# Altium schematic symbol library Placa desarrollo PIC16F877A.SchLib: 16 symbols
Pins are listed as number, name and electrical type; pins without a type are passive.

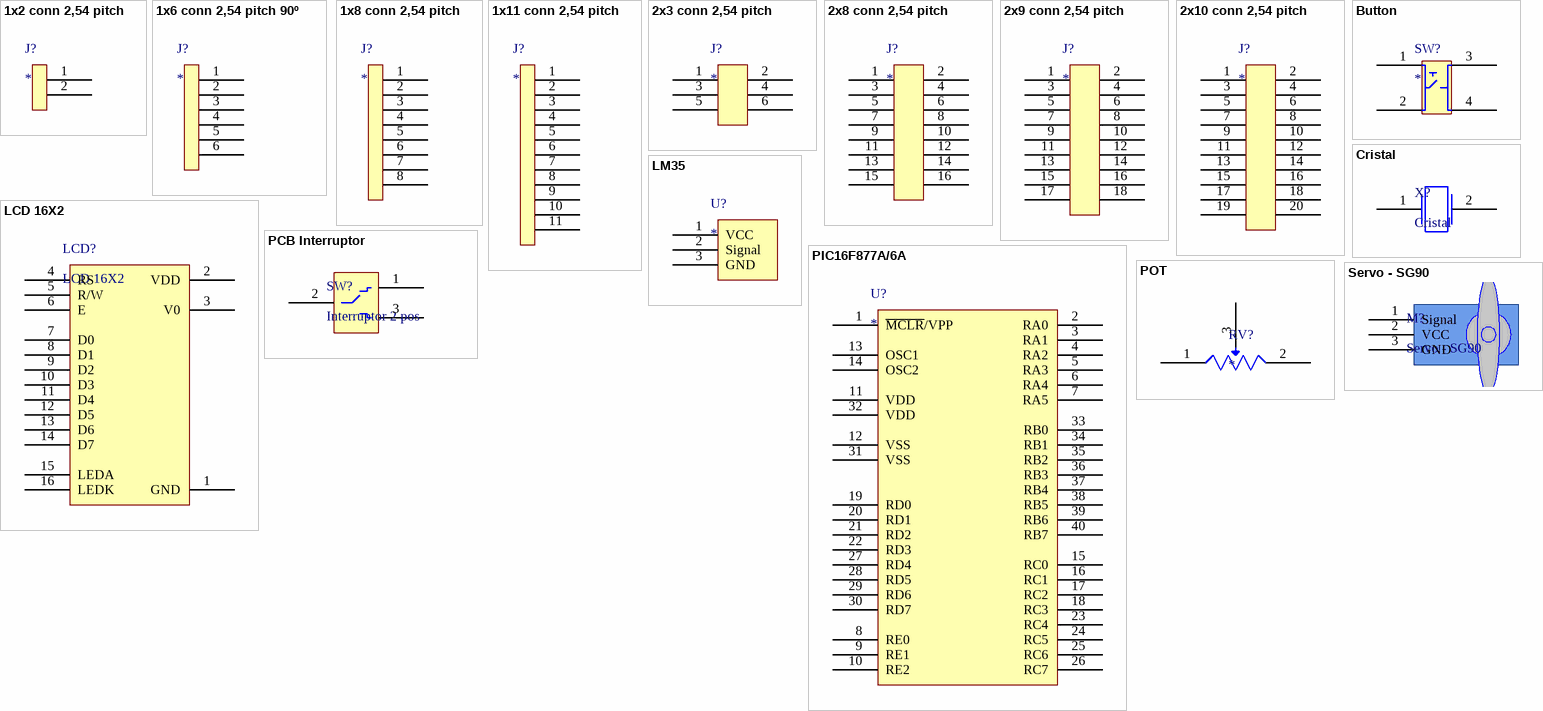
[diagram p0: symbols 1x2 conn 2,54 pitch to Servo - SG90]

## 1x2 conn 2,54 pitch
designator J?
Male header connector 2,54 pitch 1x2 pins
footprint 1x2 conn 2,54mm
pins: 1, 2

## 1x6 conn 2,54 pitch 90º
designator J?
Male header connector 2,54 pitch 1x6 pins 90 angle
footprint 1x6 conn 2,54mm 90º angle
pins: 1, 2, 3, 4, 5, 6

## 1x8 conn 2,54 pitch
designator J?
Male header connector 2,54 pitch 1x8 pins
footprint 1x8 conn 2,54mm
pins: 1, 2, 3, 4, 5, 6, 7, 8

## 1x11 conn 2,54 pitch
designator J?
Male header connector 2,54 pitch 1x11 pins
footprint 1x11 conn 2,54mm
pins: 1, 2, 3, 4, 5, 6, 7, 8, 9, 10, 11

## 2x3 conn 2,54 pitch
designator J?
Male header connector 2,54 pitch 2x3 pins
footprint 2x3 conn 2,54mm
pins: 1, 2, 3, 4, 5, 6

## 2x8 conn 2,54 pitch
designator J?
Male header connector 2,54 pitch 2x8 pins
footprint 2x8 conn 2,54mm
pins: 1, 2, 3, 4, 5, 6, 7, 8, 9, 10, 11, 12, 13, 14, 15, 16

## 2x9 conn 2,54 pitch
designator J?
Male header connector 2,54 pitch 2x8 pins
footprint 2x9conn 2,54mm
pins: 1, 2, 3, 4, 5, 6, 7, 8, 9, 10, 11, 12, 13, 14, 15, 16, 17, 18

## 2x10 conn 2,54 pitch
designator J?
Male header connector 2,54 pitch 2x10 pins
footprint 2x10 conn 2,54mm
pins: 1, 2, 3, 4, 5, 6, 7, 8, 9, 10, 11, 12, 13, 14, 15, 16, 17, 18, 19, 20

## Button
designator SW?
footprint Button
pins: 1, 2, 3, 4

## Cristal
designator X?
footprint Cristal
pins: 1, 2

## LCD 16X2
designator LCD?
footprint LCD 16x2
pins: 1 GND, 2 VDD, 3 V0, 4 RS, 5 R/W, 6 E, 7 D0, 8 D1, 9 D2, 10 D3, 11 D4, 12 D5, 13 D6, 14 D7, 15 LEDA, 16 LEDK

## LM35
designator U?
footprint LM35
pins: 1 VCC, 2 Signal, 3 GND

## PCB Interruptor
designator SW?, comment Interruptor 2 pos
footprint INT 2POS
pins: 1, 2, 3

## PIC16F877A/6A
designator U?
footprint PIC16F877A/6A
pins: 1 ~{MCLR}/VPP, 2 RA0, 3 RA1, 4 RA2, 5 RA3, 6 RA4, 7 RA5, 8 RE0, 9 RE1, 10 RE2, 11 VDD, 12 VSS, 13 OSC1, 14 OSC2, 15 RC0, 16 RC1, 17 RC2, 18 RC3, 19 RD0, 20 RD1, 21 RD2, 22 RD3, 23 RC4, 24 RC5, 25 RC6, 26 RC7, 27 RD4, 28 RD5, 29 RD6, 30 RD7, 31 VSS, 32 VDD, 33 RB0, 34 RB1, 35 RB2, 36 RB3, 37 RB4, 38 RB5, 39 RB6, 40 RB7

## POT
designator RV?
Resistencia variable china
footprint POT
pins: 1, 2, 3

## Servo - SG90
designator M?
footprint Servo - SG90
pins: 1 Signal, 2 VCC, 3 GND